# Altium schematic symbol library 10118194-0001LF.SchLib: 1 symbol
Pins are listed as number, name and electrical type; pins without a type are passive.

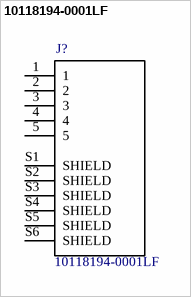
[diagram p0: symbol 10118194-0001LF]

## 10118194-0001LF
designator J?
/ Micro Usb, 2.0 Type b, Rcpt, Smt /; MF: Amphenol ICC; Package: None; MP: 10118194-0001LF; Digi-Key_Purchase_URL: https://www.digikey.es/product-detail/en/amphenol-icc-fci/10118194-0001LF/609-4618-1-ND/2785382?utm_source=snapeda&utm_medium=aggregator&utm_campaign=symbol; SnapEDA_Link: https://www.snapeda.com/parts/10118194-0001LF/Amphenol%20ICC/view-part/?ref=snap; Digi-Key_Part_Number: 609-4618-1-ND; Value: *
footprint *AMPHENOL_10118194-0001LF_10118194-0001LF(Primary)
pins: 1, 2, 3, 4, 5, S1 SHIELD, S2 SHIELD, S3 SHIELD, S4 SHIELD, S5 SHIELD, S6 SHIELD